# Altium schematic symbol library SoM_Artix.SchLib: 261 symbols (part 2 of 2)
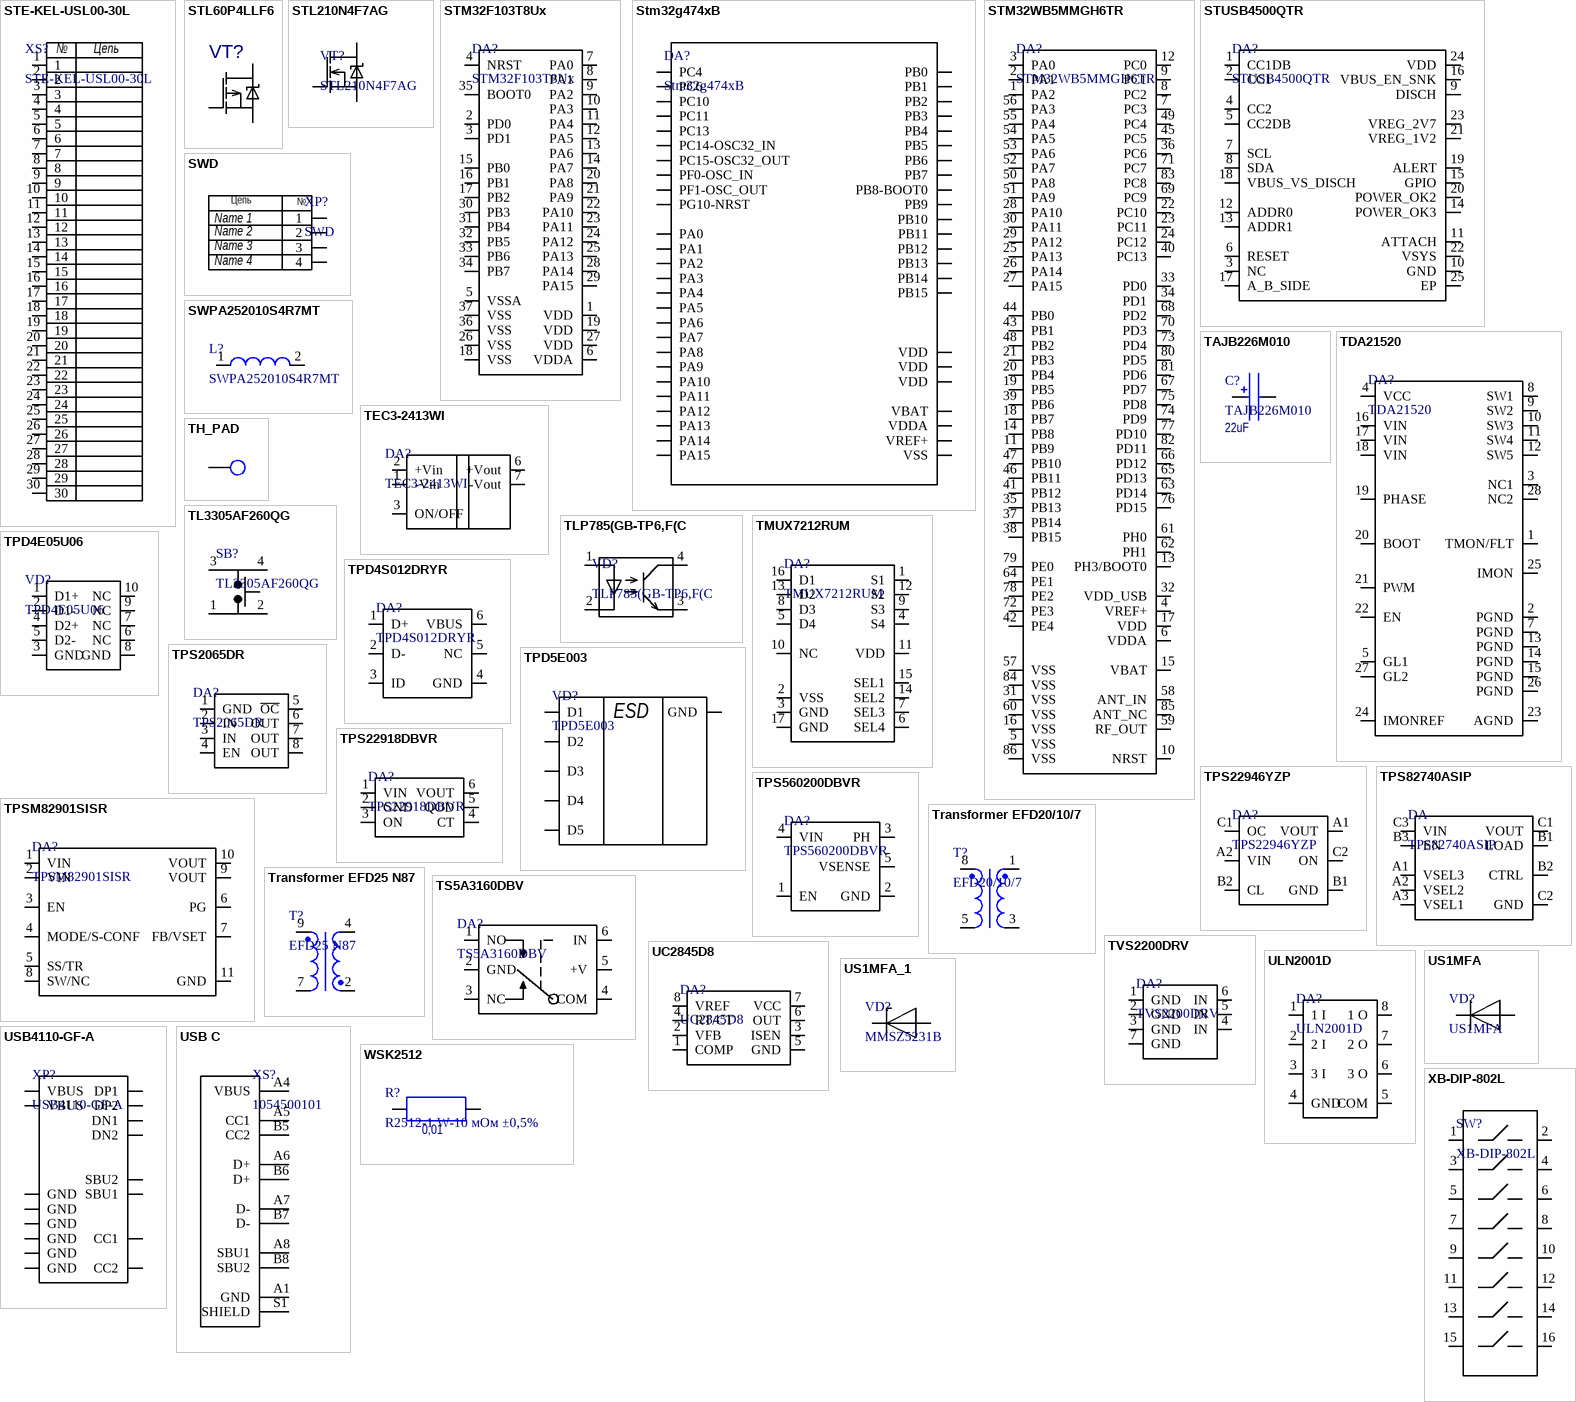
[diagram p10: symbols STE-KEL-USL00-30L to XB-DIP-802L]

## TLP785(GB-TP6,F(C
designator VD?
footprint 11-5L106
pins: 1, 2, 3, 4

## TMUX7212RUM
designator DA?
Low-RON, 1:1 (SPST), 4-Channel Precision Switches with Latch-Up / Immunity and 1.8-V Logic
footprint WQFN-16
pins: 1 S1, 2 VSS, 3 GND, 4 S4, 5 D4, 6 SEL4, 7 SEL3, 8 D3, 9 S3, 10 NC, 11 VDD, 12 S2, 13 D2, 14 SEL2, 15 SEL1, 16 D1, 17 GND

## TPD4E05U06
designator VD?
ULTRA LOW CAPACITANCE TVS DIODE ARRAY
footprint TPD4E05U06 (2.5x1x0.5 mm)
pins: 1 D1+, 2 D1-, 3 GND, 4 D2+, 5 D2-, 6 NC, 7 NC, 8 GND, 9 NC, 10 NC

## TPD4S012DRYR
designator DA?
TVS DIODE 5.5VWM 6SON
footprint TPD4S012DRYR
pins: 1 D+, 2 D-, 3 ID, 4 GND, 5 NC, 6 VBUS

## TPD5E003
designator VD?
Five-Channel Space-Saving ESD Protection Device; Part Number: TPD5E003
footprint X2SON
pins: 1 D1, 2 GND, 3 D2, 4 D3, 5 D4, 6 D5
text: ESD

## TPS2065DR
designator DA?
CURRENT-LIMITED, POWER-DISTRIBUTION SWITCH / SOIC-8
footprint SOIC-8 (6x5x1.75 mm)
pins: 1 GND, 2 IN, 3 IN, 4 EN, 5 ~{OC}, 6 OUT, 7 OUT, 8 OUT

## TPS22918DBVR
designator DA?
1V~5.5V 53mΩ 2A 1 SOT-23-6 Power Distribution Switches ROHS
footprint SOT-23-6
pins: 1 VIN, 2 GND, 3 ON, 4 CT, 5 QOD, 6 VOUT

## TPS22946YZP
designator DA?
Power Switch/Driver 1:1 P-Channel 6-DSBGA
footprint TPS22946YZP
pins: A1 VOUT, A2 VIN, B1 GND, B2 CL, C1 OC, C2 ON

## TPS82740ASIP
designator DA
200-mA Step Down Converter Module with 360nA Iq
footprint TPS82740A
pins: A1 VSEL3, A2 VSEL2, A3 VSEL1, B1 LOAD, B2 CTRL, B3 EN, C1 VOUT, C2 GND, C3 VIN

## TPS560200DBVR
designator DA?
IC REG BUCK ADJ 500MA SOT23-5
footprint SOT-23-5
pins: 1 EN, 2 GND, 3 PH, 4 VIN, 5 VSENSE

## TPSM82901SISR
designator DA?
Switching Voltage Regulators 3-V to 17-V, 1-A high efficiency, low IQ synchronous buck converter module with integrated inductor 11-uSiP -40 to 125
footprint TPSM82901SISR
pins: 1 VIN, 2 VIN, 3 EN, 4 MODE/S-CONF, 5 SS/TR, 6 PG, 7 FB/VSET, 8 SW/NC, 9 VOUT, 10 VOUT, 11 GND

## Transformer EFD20/10/7
designator T?, comment EFD20/10/7
footprint Transformer EFD20/10/7 (CPHS-EFD20/7-1S-10P)
pins: 1, 3, 5, 8

## Transformer EFD25 N87
designator T?, comment EFD25 N87
footprint Transformer
pins: 2, 4, 7, 9

## TS5A3160DBV
designator DA?
Analogue Switch ICs 1Ohm SPDT Ana Sw Sgl-Ch 2:1
footprint SOT-23-6
pins: 1 NO, 2 GND, 3 NC, 4 COM, 5 +V, 6 IN

## TVS2200DRV
designator DA?
UNIDIR PRECISION SURGE DIODE
footprint VSON6
pins: 1 GND, 2 GND, 3 GND, 4 IN, 5 IN, 6 IN, 7 GND

## UC2845D8
designator DA?
Single ended 500KHz current mode PWM controller with 8.4V/7.6V UVLO 50% duty cycle, -40C to 85C
footprint SOIC-8 (6x5x1.75 mm)
pins: 1 COMP, 2 VFB, 3 ISEN, 4 RT/CT, 5 GND, 6 OUT, 7 VCC, 8 VREF

## ULN2001D
designator DA?
Darlington arrays
footprint SOP-8
pins: 1 1 I, 2 2 I, 3 3 I, 4 GND, 5 COM, 6 3 O, 7 2 O, 8 1 O

## US1MFA
designator VD?
Rectifiers 1000V 1A High Effic Rectifier
footprint SOD-123FA
pins: A, K

## US1MFA_1
designator VD?, comment MMSZ5231B
Zener Diodes Zener, SOD-123F, 5.1V, 0.5W, 5%
footprint SOD-123FA
pins: A, K

## USB4110-GF-A
designator XP?
CONN RCP USB2.0 TYP C 24P SMD RA
footprint GCT_USB4110GFA
pins: A1/B12 GND, A4/B9 VBUS, A5 CC1, A6 DP1, A7 DN1, A8 SBU1, B1/A12 GND, B4/A9 VBUS, B5 CC2, B6 DP2, B7 DN2, B8 SBU2, S1 GND, S2 GND, S3 GND, S4 GND

## USB C
designator XS?, comment 1054500101
USB 3.2 1 24P Female -30℃~+85℃ Type-C SMD USB Connectors ROHS
footprint USB C (1054500101)
pins: A1 GND, A4 VBUS, A5 CC1, A6 D+, A7 D-, A8 SBU1, B5 CC2, B6 D+, B7 D-, B8 SBU2, S1 SHIELD

## WSK2512
designator R?, comment R2512-1 W-10 мОм ±0,5%  value 0,01
R2010-1 W-10 мОм ±0,5%
footprint WSK2512
pins: 1, 2

## XB-DIP-802L
designator SW?
footprint XB-DIP-802L
pins: 1, 2, 3, 4, 5, 6, 7, 8, 9, 10, 11, 12, 13, 14, 15, 16

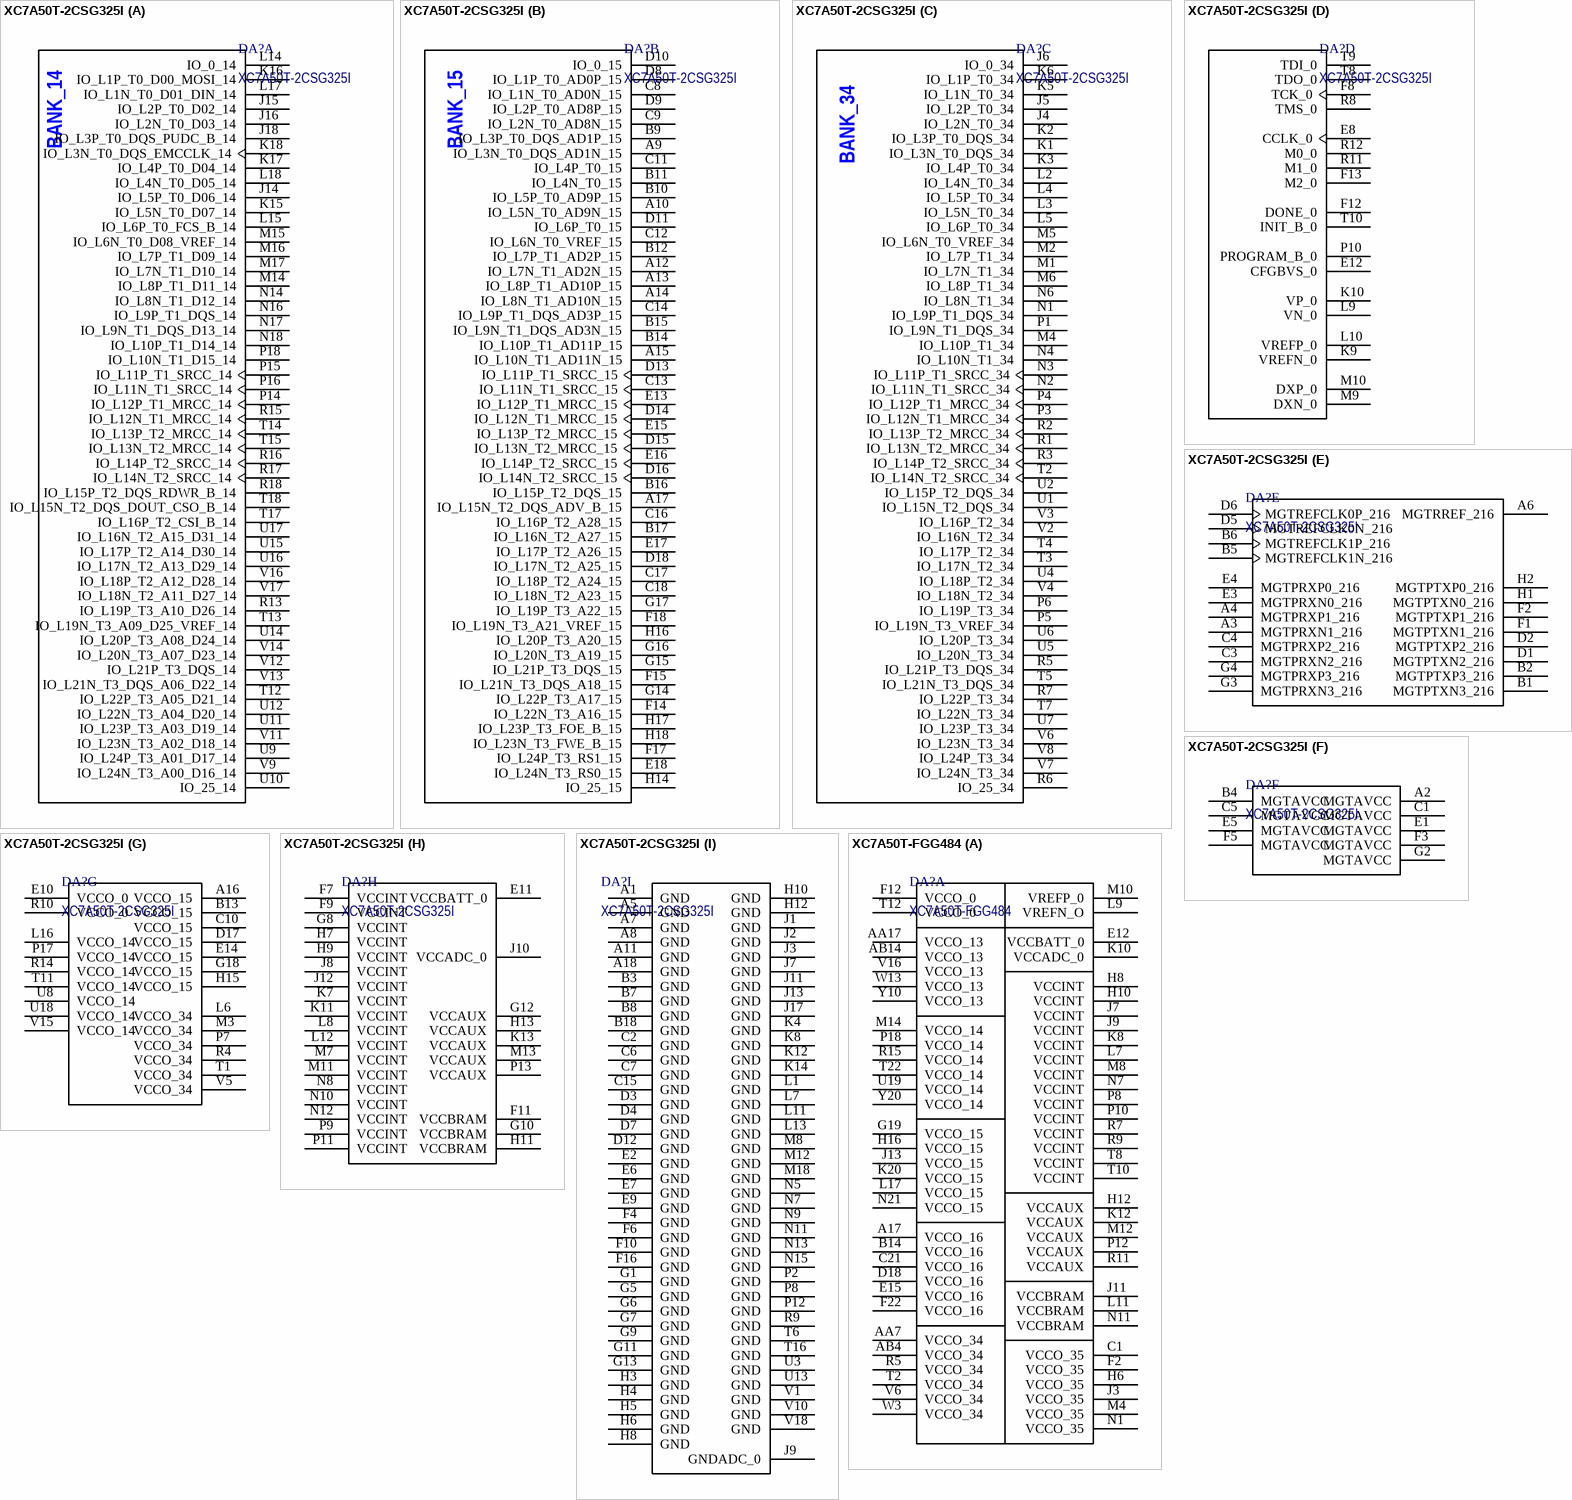
[diagram p7: symbols XC7A50T-2CSG325I to XC7A50T-FGG484]

## XC7A50T-2CSG325I
designator DA?
Artix-7 FPGA
footprint XC7A50T-2CSG325I (Artix-7 FPGA)
part A pins: J14 IO_L5P_T0_D06_14, J15 IO_L2P_T0_D02_14, J16 IO_L2N_T0_D03_14, J18 IO_L3P_T0_DQS_PUDC_B_14, K15 IO_L5N_T0_D07_14, K16 IO_L1P_T0_D00_MOSI_14, K17 IO_L4P_T0_D04_14, K18 IO_L3N_T0_DQS_EMCCLK_14, L14 IO_0_14, L15 IO_L6P_T0_FCS_B_14, L17 IO_L1N_T0_D01_DIN_14, L18 IO_L4N_T0_D05_14, M14 IO_L8P_T1_D11_14, M15 IO_L6N_T0_D08_VREF_14, M16 IO_L7P_T1_D09_14, M17 IO_L7N_T1_D10_14, N14 IO_L8N_T1_D12_14, N16 IO_L9P_T1_DQS_14, N17 IO_L9N_T1_DQS_D13_14, N18 IO_L10P_T1_D14_14, P14 IO_L12P_T1_MRCC_14, P15 IO_L11P_T1_SRCC_14, P16 IO_L11N_T1_SRCC_14, P18 IO_L10N_T1_D15_14, R13 IO_L19P_T3_A10_D26_14, R15 IO_L12N_T1_MRCC_14, R16 IO_L14P_T2_SRCC_14, R17 IO_L14N_T2_SRCC_14, R18 IO_L15P_T2_DQS_RDWR_B_14, T12 IO_L22P_T3_A05_D21_14, T13 IO_L19N_T3_A09_D25_VREF_14, T14 IO_L13P_T2_MRCC_14, T15 IO_L13N_T2_MRCC_14, T17 IO_L16P_T2_CSI_B_14, T18 IO_L15N_T2_DQS_DOUT_CSO_B_14, U9 IO_L24P_T3_A01_D17_14, U10 IO_25_14, U11 IO_L23P_T3_A03_D19_14, U12 IO_L22N_T3_A04_D20_14, U14 IO_L20P_T3_A08_D24_14, U15 IO_L17P_T2_A14_D30_14, U16 IO_L17N_T2_A13_D29_14, U17 IO_L16N_T2_A15_D31_14, V9 IO_L24N_T3_A00_D16_14, V11 IO_L23N_T3_A02_D18_14, V12 IO_L21P_T3_DQS_14, V13 IO_L21N_T3_DQS_A06_D22_14, V14 IO_L20N_T3_A07_D23_14, V16 IO_L18P_T2_A12_D28_14, V17 IO_L18N_T2_A11_D27_14
part B pins: A9 IO_L3N_T0_DQS_AD1N_15, A10 IO_L5N_T0_AD9N_15, A12 IO_L7N_T1_AD2N_15, A13 IO_L8P_T1_AD10P_15, A14 IO_L8N_T1_AD10N_15, A15 IO_L10N_T1_AD11N_15, A17 IO_L15N_T2_DQS_ADV_B_15, B9 IO_L3P_T0_DQS_AD1P_15, B10 IO_L5P_T0_AD9P_15, B11 IO_L4N_T0_15, B12 IO_L7P_T1_AD2P_15, B14 IO_L10P_T1_AD11P_15, B15 IO_L9N_T1_DQS_AD3N_15, B16 IO_L15P_T2_DQS_15, B17 IO_L16N_T2_A27_15, C8 IO_L1N_T0_AD0N_15, C9 IO_L2N_T0_AD8N_15, C11 IO_L4P_T0_15, C12 IO_L6N_T0_VREF_15, C13 IO_L11N_T1_SRCC_15, C14 IO_L9P_T1_DQS_AD3P_15, C16 IO_L16P_T2_A28_15, C17 IO_L18P_T2_A24_15, C18 IO_L18N_T2_A23_15, D8 IO_L1P_T0_AD0P_15, D9 IO_L2P_T0_AD8P_15, D10 IO_0_15, D11 IO_L6P_T0_15, D13 IO_L11P_T1_SRCC_15, D14 IO_L12N_T1_MRCC_15, D15 IO_L13N_T2_MRCC_15, D16 IO_L14N_T2_SRCC_15, D18 IO_L17N_T2_A25_15, E13 IO_L12P_T1_MRCC_15, E15 IO_L13P_T2_MRCC_15, E16 IO_L14P_T2_SRCC_15, E17 IO_L17P_T2_A26_15, E18 IO_L24N_T3_RS0_15, F14 IO_L22N_T3_A16_15, F15 IO_L21N_T3_DQS_A18_15, F17 IO_L24P_T3_RS1_15, F18 IO_L19N_T3_A21_VREF_15, G14 IO_L22P_T3_A17_15, G15 IO_L21P_T3_DQS_15, G16 IO_L20N_T3_A19_15, G17 IO_L19P_T3_A22_15, H14 IO_25_15, H16 IO_L20P_T3_A20_15, H17 IO_L23P_T3_FOE_B_15, H18 IO_L23N_T3_FWE_B_15
part C pins: J4 IO_L2N_T0_34, J5 IO_L2P_T0_34, J6 IO_0_34, K1 IO_L3N_T0_DQS_34, K2 IO_L3P_T0_DQS_34, K3 IO_L4P_T0_34, K5 IO_L1N_T0_34, K6 IO_L1P_T0_34, L2 IO_L4N_T0_34, L3 IO_L5N_T0_34, L4 IO_L5P_T0_34, L5 IO_L6P_T0_34, M1 IO_L7N_T1_34, M2 IO_L7P_T1_34, M4 IO_L10P_T1_34, M5 IO_L6N_T0_VREF_34, M6 IO_L8P_T1_34, N1 IO_L9P_T1_DQS_34, N2 IO_L11N_T1_SRCC_34, N3 IO_L11P_T1_SRCC_34, N4 IO_L10N_T1_34, N6 IO_L8N_T1_34, P1 IO_L9N_T1_DQS_34, P3 IO_L12N_T1_MRCC_34, P4 IO_L12P_T1_MRCC_34, P5 IO_L19N_T3_VREF_34, P6 IO_L19P_T3_34, R1 IO_L13N_T2_MRCC_34, R2 IO_L13P_T2_MRCC_34, R3 IO_L14P_T2_SRCC_34, R5 IO_L21P_T3_DQS_34, R6 IO_25_34, R7 IO_L22P_T3_34, T2 IO_L14N_T2_SRCC_34, T3 IO_L17N_T2_34, T4 IO_L17P_T2_34, T5 IO_L21N_T3_DQS_34, T7 IO_L22N_T3_34, U1 IO_L15N_T2_DQS_34, U2 IO_L15P_T2_DQS_34, U4 IO_L18P_T2_34, U5 IO_L20N_T3_34, U6 IO_L20P_T3_34, U7 IO_L23P_T3_34, V2 IO_L16N_T2_34, V3 IO_L16P_T2_34, V4 IO_L18N_T2_34, V6 IO_L23N_T3_34, V7 IO_L24N_T3_34, V8 IO_L24P_T3_34
part D pins: E8 CCLK_0, E12 CFGBVS_0, F8 TCK_0, F12 DONE_0, F13 M2_0, K9 VREFN_0, K10 VP_0, L9 VN_0, L10 VREFP_0, M9 DXN_0, M10 DXP_0, P10 PROGRAM_B_0, R8 TMS_0, R11 M1_0, R12 M0_0, T8 TDO_0, T9 TDI_0, T10 INIT_B_0
part E pins: A3 MGTPRXN1_216, A4 MGTPRXP1_216, A6 MGTRREF_216, B1 MGTPTXN3_216, B2 MGTPTXP3_216, B5 MGTREFCLK1N_216, B6 MGTREFCLK1P_216, C3 MGTPRXN2_216, C4 MGTPRXP2_216, D1 MGTPTXN2_216, D2 MGTPTXP2_216, D5 MGTREFCLK0N_216, D6 MGTREFCLK0P_216, E3 MGTPRXN0_216, E4 MGTPRXP0_216, F1 MGTPTXN1_216, F2 MGTPTXP1_216, G3 MGTPRXN3_216, G4 MGTPRXP3_216, H1 MGTPTXN0_216, H2 MGTPTXP0_216
part F pins: A2 MGTAVCC, B4 MGTAVCC, C1 MGTAVCC, C5 MGTAVCC, E1 MGTAVCC, E5 MGTAVCC, F3 MGTAVCC, F5 MGTAVCC, G2 MGTAVCC
part G pins: A16 VCCO_15, B13 VCCO_15, C10 VCCO_15, D17 VCCO_15, E10 VCCO_0, E14 VCCO_15, G18 VCCO_15, H15 VCCO_15, L6 VCCO_34, L16 VCCO_14, M3 VCCO_34, P7 VCCO_34, P17 VCCO_14, R4 VCCO_34, R10 VCCO_0, R14 VCCO_14, T1 VCCO_34, T11 VCCO_14, U8 VCCO_14, U18 VCCO_14, V5 VCCO_34, V15 VCCO_14
part H pins: E11 VCCBATT_0, F7 VCCINT, F9 VCCINT, F11 VCCBRAM, G8 VCCINT, G10 VCCBRAM, G12 VCCAUX, H7 VCCINT, H9 VCCINT, H11 VCCBRAM, H13 VCCAUX, J8 VCCINT, J10 VCCADC_0, J12 VCCINT, K7 VCCINT, K11 VCCINT, K13 VCCAUX, L8 VCCINT, L12 VCCINT, M7 VCCINT, M11 VCCINT, M13 VCCAUX, N8 VCCINT, N10 VCCINT, N12 VCCINT, P9 VCCINT, P11 VCCINT, P13 VCCAUX
part I pins: A1 GND, A5 GND, A7 GND, A8 GND, A11 GND, A18 GND, B3 GND, B7 GND, B8 GND, B18 GND, C2 GND, C6 GND, C7 GND, C15 GND, D3 GND, D4 GND, D7 GND, D12 GND, E2 GND, E6 GND, E7 GND, E9 GND, F4 GND, F6 GND, F10 GND, F16 GND, G1 GND, G5 GND, G6 GND, G7 GND, G9 GND, G11 GND, G13 GND, H3 GND, H4 GND, H5 GND, H6 GND, H8 GND, H10 GND, H12 GND, J1 GND, J2 GND, J3 GND, J7 GND, J9 GNDADC_0, J11 GND, J13 GND, J17 GND, K4 GND, K8 GND, K12 GND, K14 GND, L1 GND, L7 GND, L11 GND, L13 GND, M8 GND, M12 GND, M18 GND, N5 GND, N7 GND, N9 GND, N11 GND, N13 GND, N15 GND, P2 GND, P8 GND, P12 GND, R9 GND, T6 GND, T16 GND, U3 GND, U13 GND, V1 GND, V10 GND, V18 GND
part A text: BANK_14
part B text: BANK_15
part C text: BANK_34

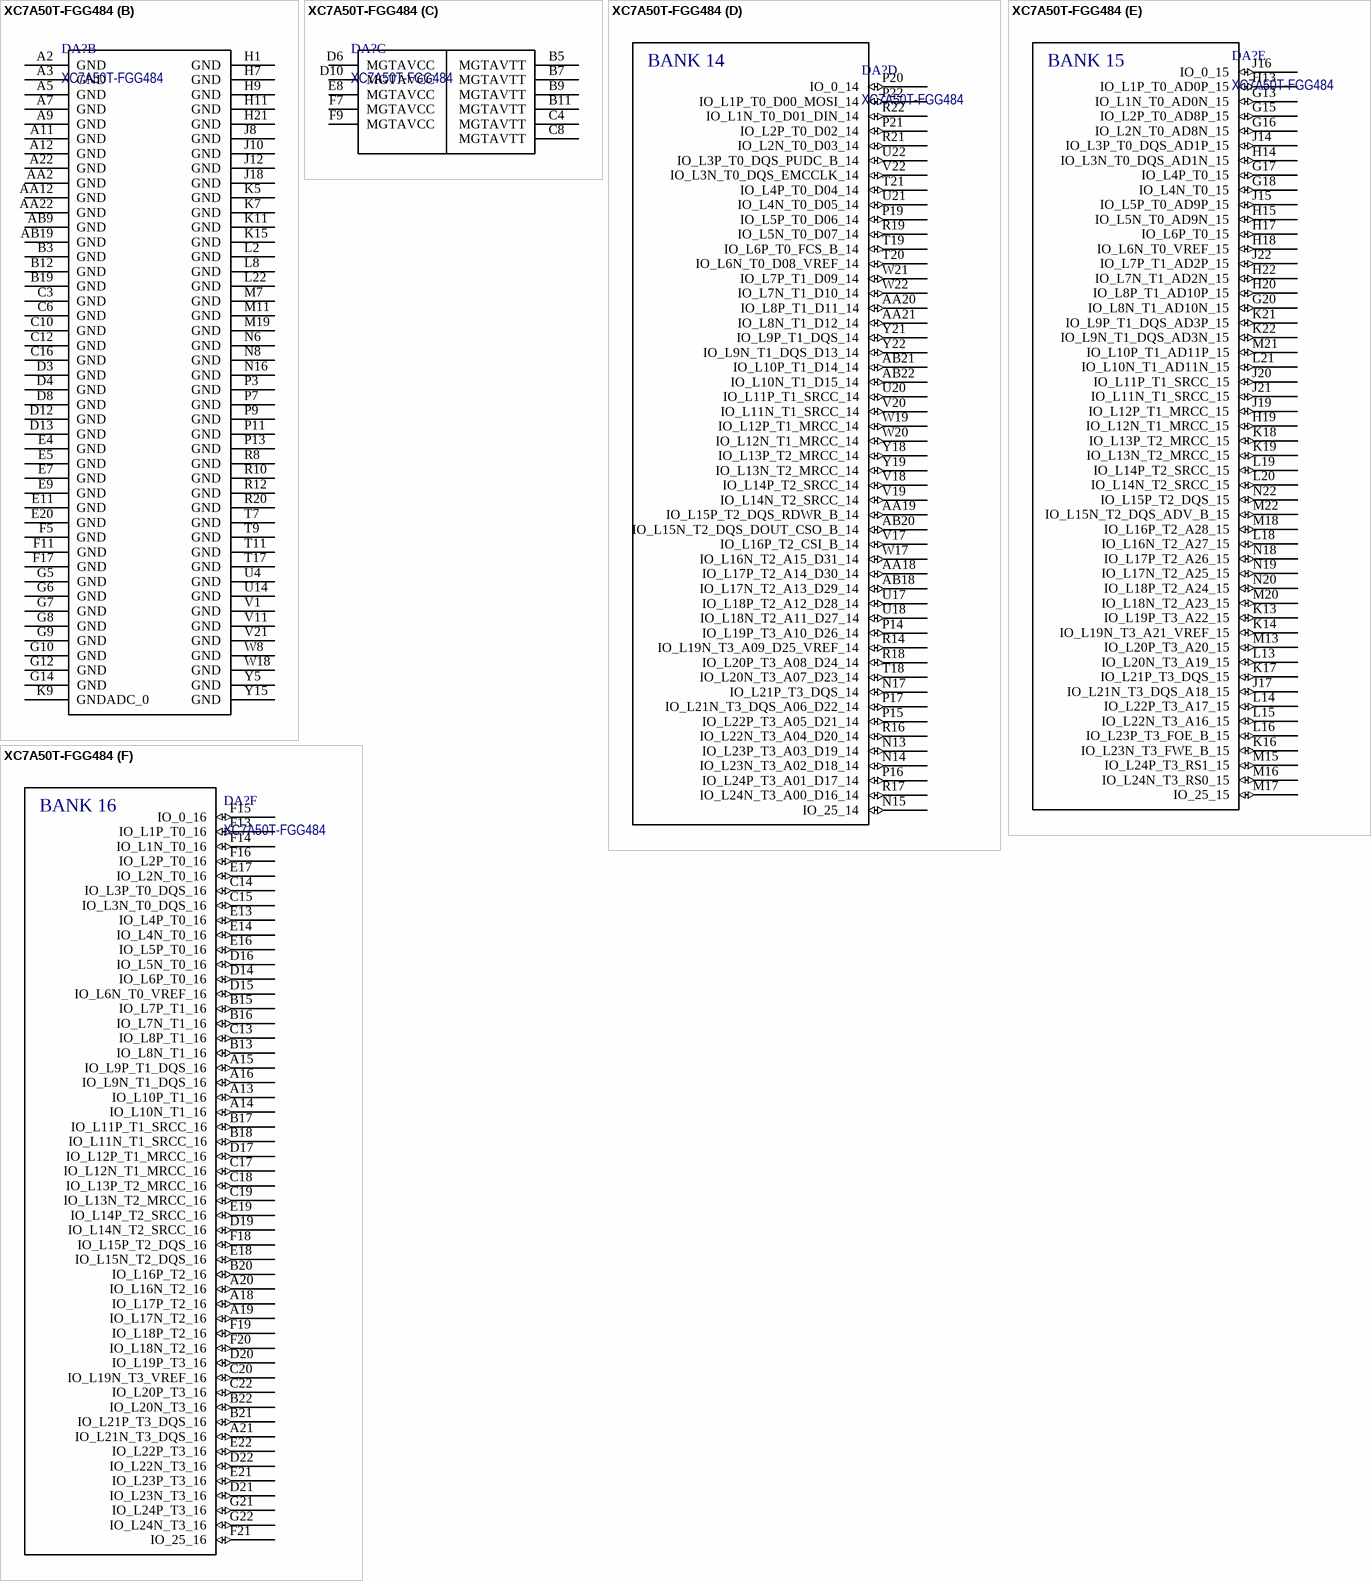
[diagram p8: symbol XC7A50T-FGG484]

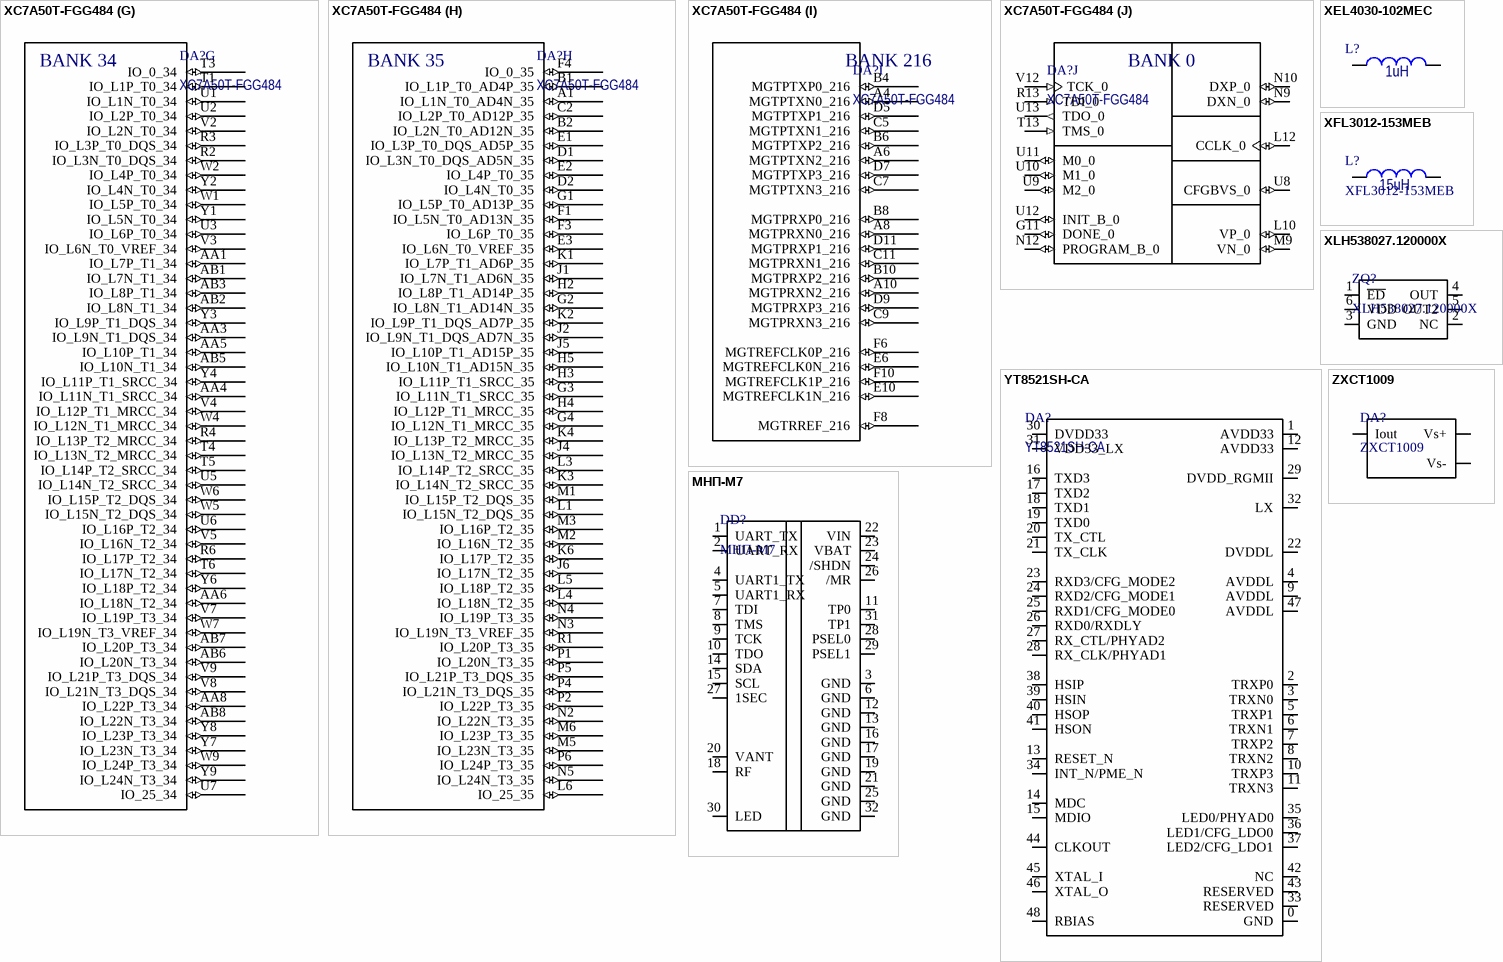
[diagram p9: symbols XC7A50T-FGG484 to МНП-М7]

## XC7A50T-FGG484
designator DA?
Artix-7 FPGA
footprint XC7A50T-fgg484 (22x22x2.2 pitch 1mm)
part A pins: A17 VCCO_16 (power), AA7 VCCO_34 (power), AA17 VCCO_13 (power), AB4 VCCO_34 (power), AB14 VCCO_13 (power), B14 VCCO_16 (power), C1 VCCO_35 (power), C21 VCCO_16 (power), D18 VCCO_16 (power), E12 VCCBATT_0 (power), E15 VCCO_16 (power), F2 VCCO_35 (power), F12 VCCO_0 (power), F22 VCCO_16 (power), G19 VCCO_15 (power), H6 VCCO_35 (power), H8 VCCINT (power), H10 VCCINT (power), H12 VCCAUX (power), H16 VCCO_15 (power), J3 VCCO_35 (power), J7 VCCINT (power), J9 VCCINT (power), J11 VCCBRAM (power), J13 VCCO_15 (power), K8 VCCINT (power), K10 VCCADC_0 (power), K12 VCCAUX (power), K20 VCCO_15 (power), L7 VCCINT (power), L9 VREFN_O (power), L11 VCCBRAM (power), L17 VCCO_15 (power), M4 VCCO_35 (power), M8 VCCINT (power), M10 VREFP_0 (power), M12 VCCAUX (power), M14 VCCO_14 (power), N1 VCCO_35 (power), N7 VCCINT (power), N11 VCCBRAM (power), N21 VCCO_15 (power), P8 VCCINT (power), P10 VCCINT (power), P12 VCCAUX (power), P18 VCCO_14 (power), R5 VCCO_34 (power), R7 VCCINT (power), R9 VCCINT (power), R11 VCCAUX (power), R15 VCCO_14 (power), T2 VCCO_34 (power), T8 VCCINT (power), T10 VCCINT (power), T12 VCCO_0 (power), T22 VCCO_14 (power), U19 VCCO_14 (power), V6 VCCO_34 (power), V16 VCCO_13 (power), W3 VCCO_34 (power), W13 VCCO_13 (power), Y10 VCCO_13 (power), Y20 VCCO_14 (power)
part B pins: A2 GND (power), A3 GND (power), A5 GND (power), A7 GND (power), A9 GND (power), A11 GND (power), A12 GND (power), A22 GND (power), AA2 GND (power), AA12 GND (power), AA22 GND (power), AB9 GND (power), AB19 GND (power), B3 GND (power), B12 GND (power), B19 GND (power), C3 GND (power), C6 GND (power), C10 GND (power), C12 GND (power), C16 GND (power), D3 GND (power), D4 GND (power), D8 GND (power), D12 GND (power), D13 GND (power), E4 GND (power), E5 GND (power), E7 GND (power), E9 GND (power), E11 GND (power), E20 GND (power), F5 GND (power), F11 GND (power), F17 GND (power), G5 GND (power), G6 GND (power), G7 GND (power), G8 GND (power), G9 GND (power), G10 GND (power), G12 GND (power), G14 GND (power), H1 GND (power), H7 GND (power), H9 GND (power), H11 GND (power), H21 GND (power), J8 GND (power), J10 GND (power), J12 GND (power), J18 GND (power), K5 GND (power), K7 GND (power), K9 GNDADC_0 (power), K11 GND (power), K15 GND (power), L2 GND (power), L8 GND (power), L22 GND (power), M7 GND (power), M11 GND (power), M19 GND (power), N6 GND (power), N8 GND (power), N16 GND (power), P3 GND (power), P7 GND (power), P9 GND (power), P11 GND (power), P13 GND (power), R8 GND (power), R10 GND (power), R12 GND (power), R20 GND (power), T7 GND (power), T9 GND (power), T11 GND (power), T17 GND (power), U4 GND (power), U14 GND (power), V1 GND (power), V11 GND (power), V21 GND (power), W8 GND (power), W18 GND (power), Y5 GND (power), Y15 GND (power)
part C pins: B5 MGTAVTT (power), B7 MGTAVTT (power), B9 MGTAVTT (power), B11 MGTAVTT (power), C4 MGTAVTT (power), C8 MGTAVTT (power), D6 MGTAVCC (power), D10 MGTAVCC (power), E8 MGTAVCC (power), F7 MGTAVCC (power), F9 MGTAVCC (power)
part D pins: AA18 IO_L17P_T2_A14_D30_14 (io), AA19 IO_L15P_T2_DQS_RDWR_B_14 (io), AA20 IO_L8P_T1_D11_14 (io), AA21 IO_L8N_T1_D12_14 (io), AB18 IO_L17N_T2_A13_D29_14 (io), AB20 IO_L15N_T2_DQS_DOUT_CSO_B_14 (io), AB21 IO_L10P_T1_D14_14 (io), AB22 IO_L10N_T1_D15_14 (io), N13 IO_L23P_T3_A03_D19_14 (io), N14 IO_L23N_T3_A02_D18_14 (io), N15 IO_25_14 (io), N17 IO_L21P_T3_DQS_14 (io), P14 IO_L19P_T3_A10_D26_14 (io), P15 IO_L22P_T3_A05_D21_14 (io), P16 IO_L24P_T3_A01_D17_14 (io), P17 IO_L21N_T3_DQS_A06_D22_14 (io), P19 IO_L5P_T0_D06_14 (io), P20 IO_0_14 (io), P21 IO_L2P_T0_D02_14 (io), P22 IO_L1P_T0_D00_MOSI_14 (io), R14 IO_L19N_T3_A09_D25_VREF_14 (io), R16 IO_L22N_T3_A04_D20_14 (io), R17 IO_L24N_T3_A00_D16_14 (io), R18 IO_L20P_T3_A08_D24_14 (io), R19 IO_L5N_T0_D07_14 (io), R21 IO_L2N_T0_D03_14 (io), R22 IO_L1N_T0_D01_DIN_14 (io), T18 IO_L20N_T3_A07_D23_14 (io), T19 IO_L6P_T0_FCS_B_14 (io), T20 IO_L6N_T0_D08_VREF_14 (io), T21 IO_L4P_T0_D04_14 (io), U17 IO_L18P_T2_A12_D28_14 (io), U18 IO_L18N_T2_A11_D27_14 (io), U20 IO_L11P_T1_SRCC_14 (io), U21 IO_L4N_T0_D05_14 (io), U22 IO_L3P_T0_DQS_PUDC_B_14 (io), V17 IO_L16P_T2_CSI_B_14 (io), V18 IO_L14P_T2_SRCC_14 (io), V19 IO_L14N_T2_SRCC_14 (io), V20 IO_L11N_T1_SRCC_14 (io), V22 IO_L3N_T0_DQS_EMCCLK_14 (io), W17 IO_L16N_T2_A15_D31_14 (io), W19 IO_L12P_T1_MRCC_14 (io), W20 IO_L12N_T1_MRCC_14 (io), W21 IO_L7P_T1_D09_14 (io), W22 IO_L7N_T1_D10_14 (io), Y18 IO_L13P_T2_MRCC_14 (io), Y19 IO_L13N_T2_MRCC_14 (io), Y21 IO_L9P_T1_DQS_14 (io), Y22 IO_L9N_T1_DQS_D13_14 (io)
part E pins: G13 IO_L1N_T0_AD0N_15 (io), G15 IO_L2P_T0_AD8P_15 (io), G16 IO_L2N_T0_AD8N_15 (io), G17 IO_L4P_T0_15 (io), G18 IO_L4N_T0_15 (io), G20 IO_L8N_T1_AD10N_15 (io), H13 IO_L1P_T0_AD0P_15 (io), H14 IO_L3N_T0_DQS_AD1N_15 (io), H15 IO_L5N_T0_AD9N_15 (io), H17 IO_L6P_T0_15 (io), H18 IO_L6N_T0_VREF_15 (io), H19 IO_L12N_T1_MRCC_15 (io), H20 IO_L8P_T1_AD10P_15 (io), H22 IO_L7N_T1_AD2N_15 (io), J14 IO_L3P_T0_DQS_AD1P_15 (io), J15 IO_L5P_T0_AD9P_15 (io), J16 IO_0_15 (io), J17 IO_L21N_T3_DQS_A18_15 (io), J19 IO_L12P_T1_MRCC_15 (io), J20 IO_L11P_T1_SRCC_15 (io), J21 IO_L11N_T1_SRCC_15 (io), J22 IO_L7P_T1_AD2P_15 (io), K13 IO_L19P_T3_A22_15 (io), K14 IO_L19N_T3_A21_VREF_15 (io), K16 IO_L23N_T3_FWE_B_15 (io), K17 IO_L21P_T3_DQS_15 (io), K18 IO_L13P_T2_MRCC_15 (io), K19 IO_L13N_T2_MRCC_15 (io), K21 IO_L9P_T1_DQS_AD3P_15 (io), K22 IO_L9N_T1_DQS_AD3N_15 (io), L13 IO_L20N_T3_A19_15 (io), L14 IO_L22P_T3_A17_15 (io), L15 IO_L22N_T3_A16_15 (io), L16 IO_L23P_T3_FOE_B_15 (io), L18 IO_L16N_T2_A27_15 (io), L19 IO_L14P_T2_SRCC_15 (io), L20 IO_L14N_T2_SRCC_15 (io), L21 IO_L10N_T1_AD11N_15 (io), M13 IO_L20P_T3_A20_15 (io), M15 IO_L24P_T3_RS1_15 (io), M16 IO_L24N_T3_RS0_15 (io), M17 IO_25_15 (io), M18 IO_L16P_T2_A28_15 (io), M20 IO_L18N_T2_A23_15 (io), M21 IO_L10P_T1_AD11P_15 (io), M22 IO_L15N_T2_DQS_ADV_B_15 (io), N18 IO_L17P_T2_A26_15 (io), N19 IO_L17N_T2_A25_15 (io), N20 IO_L18P_T2_A24_15 (io), N22 IO_L15P_T2_DQS_15 (io)
part F pins: A13 IO_L10P_T1_16 (io), A14 IO_L10N_T1_16 (io), A15 IO_L9P_T1_DQS_16 (io), A16 IO_L9N_T1_DQS_16 (io), A18 IO_L17P_T2_16 (io), A19 IO_L17N_T2_16 (io), A20 IO_L16N_T2_16 (io), A21 IO_L21N_T3_DQS_16 (io), B13 IO_L8N_T1_16 (io), B15 IO_L7P_T1_16 (io), B16 IO_L7N_T1_16 (io), B17 IO_L11P_T1_SRCC_16 (io), B18 IO_L11N_T1_SRCC_16 (io), B20 IO_L16P_T2_16 (io), B21 IO_L21P_T3_DQS_16 (io), B22 IO_L20N_T3_16 (io), C13 IO_L8P_T1_16 (io), C14 IO_L3P_T0_DQS_16 (io), C15 IO_L3N_T0_DQS_16 (io), C17 IO_L12N_T1_MRCC_16 (io), C18 IO_L13P_T2_MRCC_16 (io), C19 IO_L13N_T2_MRCC_16 (io), C20 IO_L19N_T3_VREF_16 (io), C22 IO_L20P_T3_16 (io), D14 IO_L6P_T0_16 (io), D15 IO_L6N_T0_VREF_16 (io), D16 IO_L5N_T0_16 (io), D17 IO_L12P_T1_MRCC_16 (io), D19 IO_L14N_T2_SRCC_16 (io), D20 IO_L19P_T3_16 (io), D21 IO_L23N_T3_16 (io), D22 IO_L22N_T3_16 (io), E13 IO_L4P_T0_16 (io), E14 IO_L4N_T0_16 (io), E16 IO_L5P_T0_16 (io), E17 IO_L2N_T0_16 (io), E18 IO_L15N_T2_DQS_16 (io), E19 IO_L14P_T2_SRCC_16 (io), E21 IO_L23P_T3_16 (io), E22 IO_L22P_T3_16 (io), F13 IO_L1P_T0_16 (io), F14 IO_L1N_T0_16 (io), F15 IO_0_16 (io), F16 IO_L2P_T0_16 (io), F18 IO_L15P_T2_DQS_16 (io), F19 IO_L18P_T2_16 (io), F20 IO_L18N_T2_16 (io), F21 IO_25_16 (io), G21 IO_L24P_T3_16 (io), G22 IO_L24N_T3_16 (io)
part G pins: AA1 IO_L7P_T1_34 (io), AA3 IO_L9N_T1_DQS_34 (io), AA4 IO_L11N_T1_SRCC_34 (io), AA5 IO_L10P_T1_34 (io), AA6 IO_L18N_T2_34 (io), AA8 IO_L22P_T3_34 (io), AB1 IO_L7N_T1_34 (io), AB2 IO_L8N_T1_34 (io), AB3 IO_L8P_T1_34 (io), AB5 IO_L10N_T1_34 (io), AB6 IO_L20N_T3_34 (io), AB7 IO_L20P_T3_34 (io), AB8 IO_L22N_T3_34 (io), R2 IO_L3N_T0_DQS_34 (io), R3 IO_L3P_T0_DQS_34 (io), R4 IO_L13P_T2_MRCC_34 (io), R6 IO_L17P_T2_34 (io), T1 IO_L1P_T0_34 (io), T3 IO_0_34 (io), T4 IO_L13N_T2_MRCC_34 (io), T5 IO_L14P_T2_SRCC_34 (io), T6 IO_L17N_T2_34 (io), U1 IO_L1N_T0_34 (io), U2 IO_L2P_T0_34 (io), U3 IO_L6P_T0_34 (io), U5 IO_L14N_T2_SRCC_34 (io), U6 IO_L16P_T2_34 (io), U7 IO_25_34 (io), V2 IO_L2N_T0_34 (io), V3 IO_L6N_T0_VREF_34 (io), V4 IO_L12P_T1_MRCC_34 (io), V5 IO_L16N_T2_34 (io), V7 IO_L19P_T3_34 (io), V8 IO_L21N_T3_DQS_34 (io), V9 IO_L21P_T3_DQS_34 (io), W1 IO_L5P_T0_34 (io), W2 IO_L4P_T0_34 (io), W4 IO_L12N_T1_MRCC_34 (io), W5 IO_L15N_T2_DQS_34 (io), W6 IO_L15P_T2_DQS_34 (io), W7 IO_L19N_T3_VREF_34 (io), W9 IO_L24P_T3_34 (io), Y1 IO_L5N_T0_34 (io), Y2 IO_L4N_T0_34 (io), Y3 IO_L9P_T1_DQS_34 (io), Y4 IO_L11P_T1_SRCC_34 (io), Y6 IO_L18P_T2_34 (io), Y7 IO_L23N_T3_34 (io), Y8 IO_L23P_T3_34 (io), Y9 IO_L24N_T3_34 (io)
part H pins: A1 IO_L1N_T0_AD4N_35 (io), B1 IO_L1P_T0_AD4P_35 (io), B2 IO_L2N_T0_AD12N_35 (io), C2 IO_L2P_T0_AD12P_35 (io), D1 IO_L3N_T0_DQS_AD5N_35 (io), D2 IO_L4N_T0_35 (io), E1 IO_L3P_T0_DQS_AD5P_35 (io), E2 IO_L4P_T0_35 (io), E3 IO_L6N_T0_VREF_35 (io), F1 IO_L5N_T0_AD13N_35 (io), F3 IO_L6P_T0_35 (io), F4 IO_0_35 (io), G1 IO_L5P_T0_AD13P_35 (io), G2 IO_L8N_T1_AD14N_35 (io), G3 IO_L11N_T1_SRCC_35 (io), G4 IO_L12N_T1_MRCC_35 (io), H2 IO_L8P_T1_AD14P_35 (io), H3 IO_L11P_T1_SRCC_35 (io), H4 IO_L12P_T1_MRCC_35 (io), H5 IO_L10N_T1_AD15N_35 (io), J1 IO_L7N_T1_AD6N_35 (io), J2 IO_L9N_T1_DQS_AD7N_35 (io), J4 IO_L13N_T2_MRCC_35 (io), J5 IO_L10P_T1_AD15P_35 (io), J6 IO_L17N_T2_35 (io), K1 IO_L7P_T1_AD6P_35 (io), K2 IO_L9P_T1_DQS_AD7P_35 (io), K3 IO_L14N_T2_SRCC_35 (io), K4 IO_L13P_T2_MRCC_35 (io), K6 IO_L17P_T2_35 (io), L1 IO_L15N_T2_DQS_35 (io), L3 IO_L14P_T2_SRCC_35 (io), L4 IO_L18N_T2_35 (io), L5 IO_L18P_T2_35 (io), L6 IO_25_35 (io), M1 IO_L15P_T2_DQS_35 (io), M2 IO_L16N_T2_35 (io), M3 IO_L16P_T2_35 (io), M5 IO_L23N_T3_35 (io), M6 IO_L23P_T3_35 (io), N2 IO_L22N_T3_35 (io), N3 IO_L19N_T3_VREF_35 (io), N4 IO_L19P_T3_35 (io), N5 IO_L24N_T3_35 (io), P1 IO_L20N_T3_35 (io), P2 IO_L22P_T3_35 (io), P4 IO_L21N_T3_DQS_35 (io), P5 IO_L21P_T3_DQS_35 (io), P6 IO_L24P_T3_35 (io), R1 IO_L20P_T3_35 (io)
part I pins: A4 MGTPTXN0_216 (io), A6 MGTPTXN2_216 (io), A8 MGTPRXN0_216 (io), A10 MGTPRXN2_216 (io), B4 MGTPTXP0_216 (io), B6 MGTPTXP2_216 (io), B8 MGTPRXP0_216 (io), B10 MGTPRXP2_216 (io), C5 MGTPTXN1_216 (io), C7 MGTPTXN3_216 (io), C9 MGTPRXN3_216 (io), C11 MGTPRXN1_216 (io), D5 MGTPTXP1_216 (io), D7 MGTPTXP3_216 (io), D9 MGTPRXP3_216 (io), D11 MGTPRXP1_216 (io), E6 MGTREFCLK0N_216 (io), E10 MGTREFCLK1N_216 (io), F6 MGTREFCLK0P_216 (io), F8 MGTRREF_216 (io), F10 MGTREFCLK1P_216 (io)
part J pins: G11 DONE_0 (io), L10 VP_0 (io), L12 CCLK_0 (io), M9 VN_0 (io), N9 DXN_0 (io), N10 DXP_0 (io), N12 PROGRAM_B_0 (io), R13 TDI_0 (in), T13 TMS_0 (in), U8 CFGBVS_0 (io), U9 M2_0 (io), U10 M1_0 (io), U11 M0_0 (io), U12 INIT_B_0 (io), U13 TDO_0 (out), V12 TCK_0 (in)
part D text: BANK 14
part E text: BANK 15
part F text: BANK 16
part G text: BANK 34
part H text: BANK 35
part I text: BANK 216
part J text: BANK 0

## XEL4030-102MEC
designator L?  value 1uH  (hidden comment: XEL4030-102MEC)
1 µH Shielded Molded Inductor 10.7 A 9.78mOhm Max 1616 (4040 Metric)
footprint XEL4030-102MEC
pins: 1, 2

## XFL3012-153MEB
designator L?  value 15uH
Power Inductors - SMD 15Uh Shld 1A 483mOhms AECQ2
footprint XFL3012-153MEB
pins: 1, 2

## XLH538027.120000X
designator ZQ?
27.12 MHz XO (Standard) HCMOS Oscillator 3.3V Enable/Disable 6-SMD, No Lead
footprint XLH538027.120000X
pins: 1 ~{ED}, 2 NC, 3 GND, 4 OUT, 5 OUT2, 6 VDD

## YT8521SH-CA
designator DA?
YT8521S - highly integrated Ethernet transceiver; Package: QFN48
footprint KSZ9031RNXIA
pins: 0 GND, 1 AVDD33, 2 TRXP0, 3 TRXN0, 4 AVDDL, 5 TRXP1, 6 TRXN1, 7 TRXP2, 8 TRXN2, 9 AVDDL, 10 TRXP3, 11 TRXN3, 12 AVDD33, 13 RESET_N, 14 MDC, 15 MDIO, 16 TXD3, 17 TXD2, 18 TXD1, 19 TXD0, 20 TX_CTL, 21 TX_CLK, 22 DVDDL, 23 RXD3/CFG_MODE2, 24 RXD2/CFG_MODE1, 25 RXD1/CFG_MODE0, 26 RXD0/RXDLY, 27 RX_CTL/PHYAD2, 28 RX_CLK/PHYAD1, 29 DVDD_RGMII, 30 DVDD33, 31 VDD33_LX, 32 LX, 33 RESERVED, 34 INT_N/PME_N, 35 LED0/PHYAD0, 36 LED1/CFG_LDO0, 37 LED2/CFG_LDO1, 38 HSIP, 39 HSIN, 40 HSOP, 41 HSON, 42 NC, 43 RESERVED, 44 CLKOUT, 45 XTAL_I, 46 XTAL_O, 47 AVDDL, 48 RBIAS

## ZXCT1009
designator DA?
HIGH-SIDE CURRENT MONITOR
footprint SOT-23-3 ZXCT
pins: 1 Iout, 2 Vs+, 3 Vs-

## МНП-М7
designator DD?
GPS module
footprint МНП-М7
pins: 1 UART_TX, 2 UART_RX, 3 GND, 4 UART1_TX, 5 UART1_RX, 6 GND, 7 TDI, 8 TMS, 9 TCK, 10 TDO, 11 TP0, 12 GND, 13 GND, 14 SDA, 15 SCL, 16 GND, 17 GND, 18 RF, 19 GND, 20 VANT, 21 GND, 22 VIN, 23 VBAT, 24 /SHDN, 25 GND, 26 /MR, 27 1SEC, 28 PSEL0, 29 PSEL1, 30 LED, 31 TP1, 32 GND